# Altium schematic symbol library RC0603JR-07100RL.SchLib: 1 symbol
Pins are listed as number, name and electrical type; pins without a type are passive.

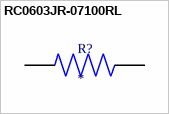
[diagram p0: symbol RC0603JR-07100RL]

## RC0603JR-07100RL
designator R?
100 Ohms Â±5% 0.1W, 1/10W Chip Resistor 0603 (1608 Metric) Thick Film; MF: Yageo; MP: RC0603JR-07100RL; SnapEDA_Link: https://www.snapeda.com/parts/RC0603JR-07100RL/Yageo/view-part/105903/?ref=snap; Value: *; Purchase-URL: https://pricing.snapeda.com/search/part/RC0603JR-07100RL/?ref=eda; Price: None; Availability: Warning; Check_prices: https://www.snapeda.com/parts/RC0603JR-07100RL/Yageo/view-part/105903/?ref=eda; Package: 1608 Yageo
pins: 1, 2